# Altium schematic symbol library PMOS.SchLib: 1 symbol
Pins are listed as number, name and electrical type; pins without a type are passive.

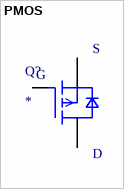
[diagram p0: symbol PMOS]

## PMOS
designator Q?
Value: *
pins: 1 D, 2 D1, 3 G, 4 S, 5 D2, 6 D3